# Altium integrated library relé CPC1017N.IntLib: 1 symbol
Pins are listed as number, name and electrical type; pins without a type are passive.

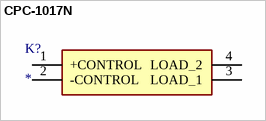
[diagram p0: symbol CPC-1017N]

## CPC-1017N
designator K?
Relay or Contactor; Manufacturer_Name: IXYS SEMICONDUCTOR; Manufacturer_Part_Number: CPC-1017N; Datasheet Link: http://www.ixysic.com/home/pdfs.nsf/www/CPC1017N.pdf/$file/CPC1017N.pdf; Height: 2.055mm
footprint SOP254P610X206-4N
pins: 1 +CONTROL, 2 -CONTROL, 3 LOAD_1, 4 LOAD_2